# EAGLE library part OSTTA060161 (library Power Board Custom)
6x1 PCB Mount Screw Terminal, 14-20GA
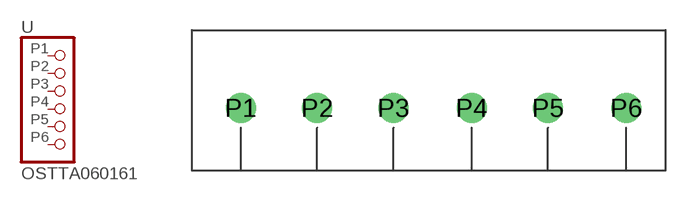
[diagram p2: symbol with the pads of OSTTA06; footprint OSTTA06]

Designator prefix -

## OSTTA060161  [OSTTA06]
P1  1  pas
P2  2  pas
P3  3  pas
P4  4  pas
P5  5  pas
P6  6  pas

## Footprint OSTTA06 (pad centres in mm)
drill 1.3: P1 -12.192,0; P2 -7.239,0; P3 -2.286,0; P4 2.794,0; P5 7.747,0; P6 12.827,0